# Altium integrated library Linear Technology Power Management PMIC Multifunction.IntLib: 360 symbols (part 17 of 42)
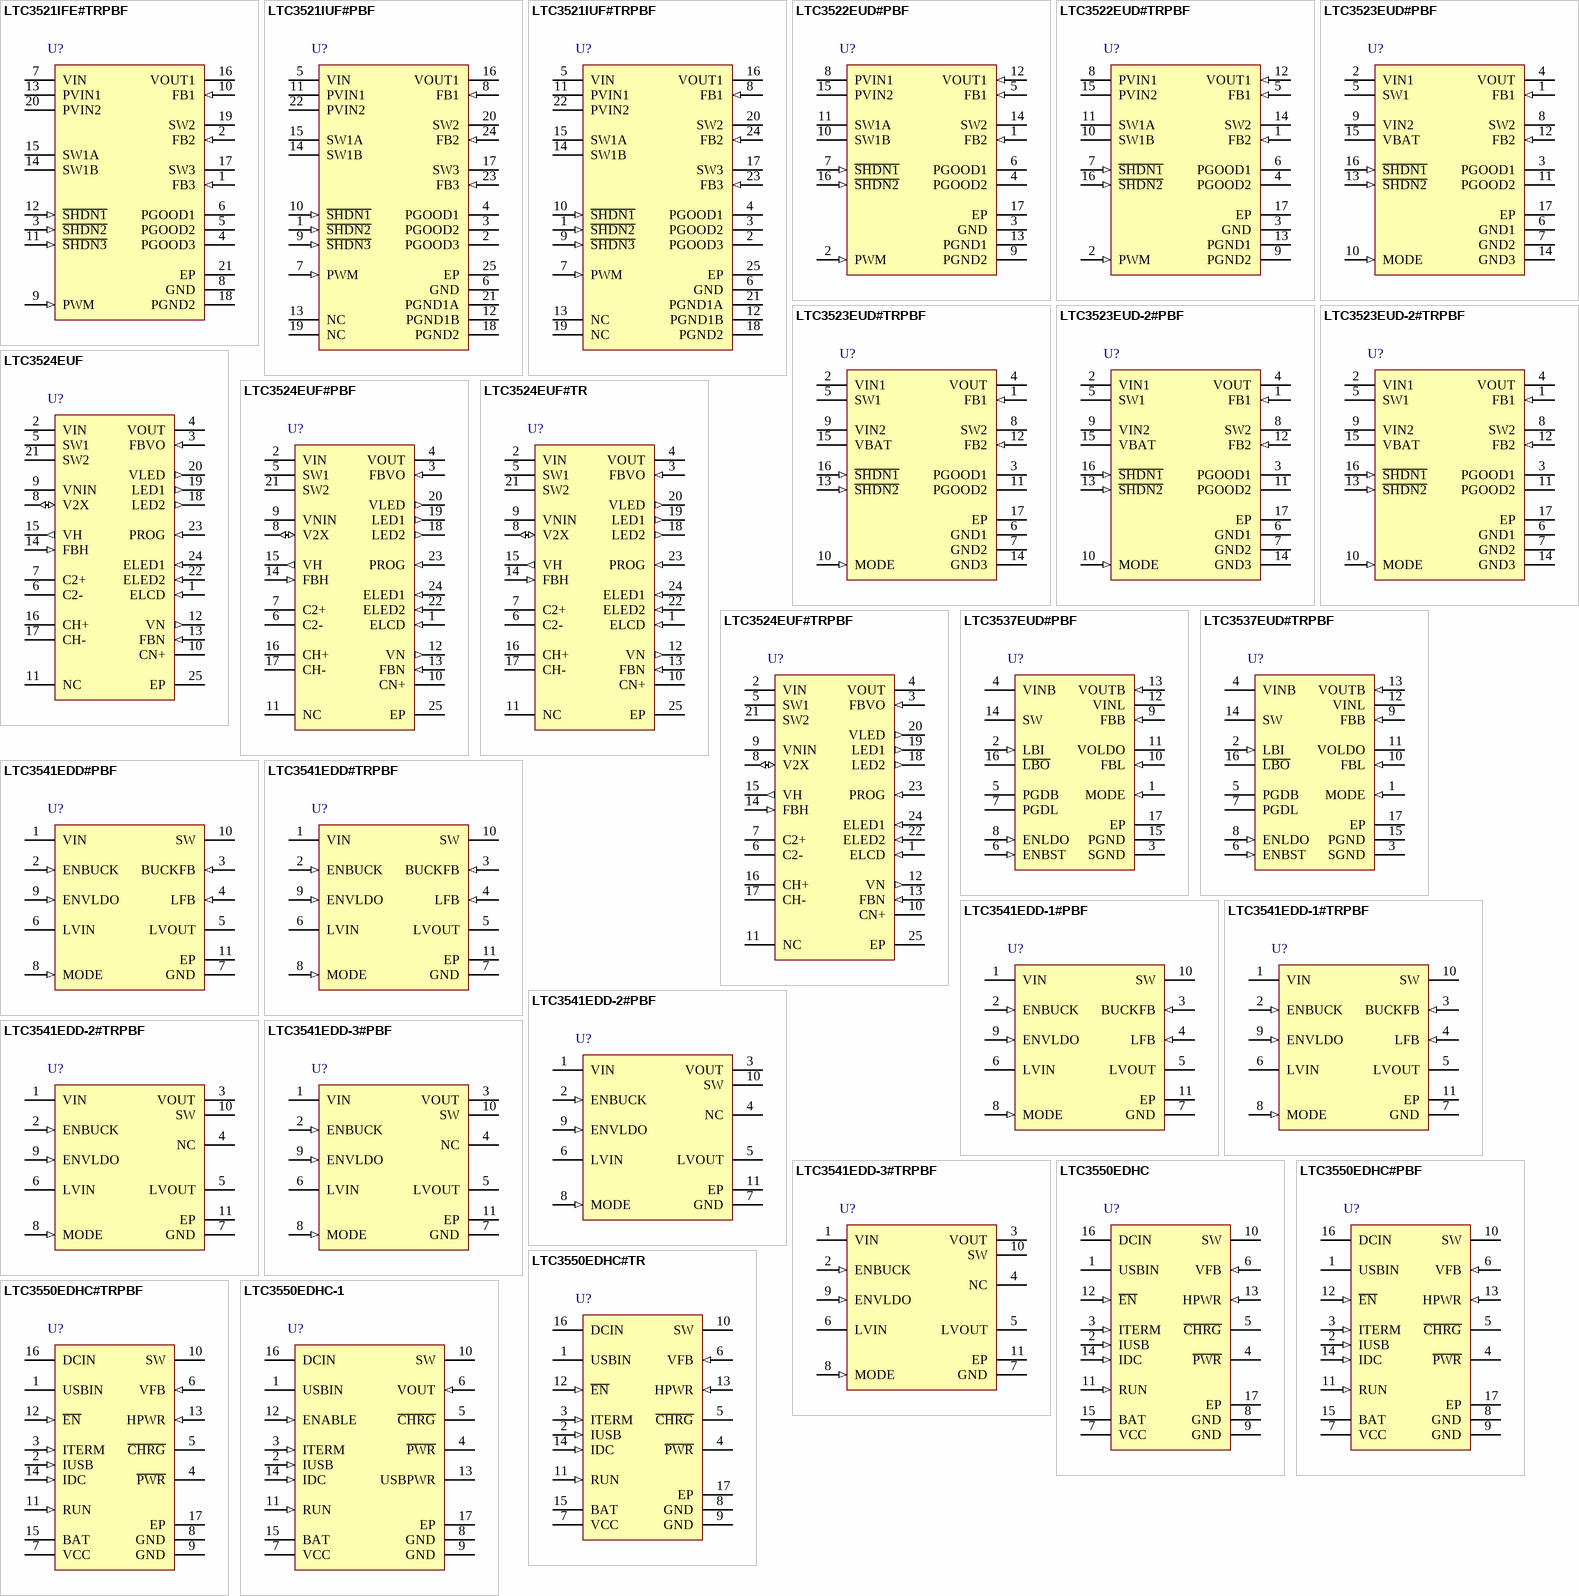
[diagram p34: symbols LTC3521IFE#TRPBF to LTC3550EDHC-1]

## LTC3523EUD#TRPBF
designator U?
Synchronous 600 mA Step-Up and 400 mA Step-Down DC/DC Converter, 1.6 to 5.5 V Vin, 16-pin QFN (UD-16), -40 to 85 degC, Pb-Free, Tape and Reel; Manufacturer: Linear Technology; PartNumber: LTC3523EUD#TRPBF; Number of Outputs: 2; Vin Max(V): 5.5; Vin Min(V): 1.6; DatasheetVersion: Rev. B; PackageVersion: Jun-10; PackageReference: UD-16; PackageDescription: 16-Pin Plastic QFN, Body 3 x 3 mm, Pitch 0.5 mm; Supplier 1: Digi-Key; Supplier Part Number 1: LTC3523EUD#TRPBF-ND; Supplier 2: Newark; Supplier Part Number 2: 88M1899; Packing: Tape and Reel; RoHS: TRUE; Mounting Technology: Surface Mount; Code_JEDEC: MO-220; ComponentLink1Description: Manufacturer URL; ComponentLink1URL: http://www.linear.com/; ComponentLink2Description: Datasheet; ComponentLink2URL: http://cds.linear.com/docs/en/datasheet/3523fb.pdf; ComponentLink3Description: Package Specification; ComponentLink3URL: http://cds.linear.com/docs/en/packaging/QFN_16_05-08-1691.pdf
footprint LT-UD-16_N (QFN, 16-Leads, Body 3x3mm, Pitch 0.5mm, Thermal Pad 1.45x1.45mm, IPC Medium Density)
footprint LT-UD-16_L (QFN, 16-Leads, Body 3x3mm, Pitch 0.5mm, Thermal Pad 1.45x1.45mm, IPC High Density)
footprint LT-UD-16_M (QFN, 16-Leads, Body 3x3mm, Pitch 0.5mm, Thermal Pad 1.45x1.45mm, IPC Low Density)
pins: 1 FB1 (in) "Step-Up Converter Feedback Input to the Error Amplifier. Connect resistor divider tap to this pin. The output voltage can be adjusted from 1.8V to 5.25V by: VOUT(STEP-UP) = 1.2V • (1 + R1/R2), See Block Diagram.", 2 VIN1 (power) "Step-Up Converter Power Voltage Input. This pin can be connected to a different supply than VIN2. This pin must be connected to a valid supply voltage.", 3 PGOOD1 (oc) "Step-Up Converter Power Good Comparator Output. This open-drain output is pulled low when VFB1 < -9% of its regulation voltage.", 4 VOUT (power) "Step-Up Converter Output Voltage Sense Input and Drain of the Internal Synchronous Rectifier MOSFET. Driver bias is derived from VOUT. PCB trace length from VOUT to the output fi lter capacitor(s) should be as short and wide (See Datasheet)", 5 SW1 "Step-Up Converter Switch Pin. Connect the inductor between SW1 and VIN1. Keep these PCB trace lengths as short and wide as possible to reduce EMI and voltage overshoot. If the inductor current falls to zero or S\H\D\N\1\ is (See Datasheet)", 6 GND1 (power) "Step-Up Converter Power Ground. Connect this pin to the ground plane.", 7 GND2 (power) "Step-Down Converter Power Ground. Connect this pin to the ground plane.", 8 SW2 (power) "Step-Down Converter Switch Pin. Connect one end of the inductor to SW2. Keep these PCB trace lengths as short and wide as possible to reduce EMI and voltage overshoot.", 9 VIN2 (power) "Step-Down Converter Power Voltage Input. This pin can be connected to a different supply than VIN1. This pin must be connected to a valid supply voltage.", 10 MODE (in) "Step-Up and Step-Down Converter Mode Selection Pin. Do not leave this pin floating.• MODE = Low: PWM mode • MODE = High: Automatic Burst Mode operation", 11 PGOOD2 (oc) "Step-Down Converter Power Good Comparator Output. This open-drain output is pulled low when VFB2 < -9% of its regulation voltage.", 12 FB2 (in) "Step-Down Converter Feedback Input to the Error amplifier. Connect resistor divider tap to this pin. The output voltage can be adjusted from 0.6V to 5.5V by:VOUT(STEP-DOWN) = 0.6V • (1 + R3/R4) See Block Diagram. If larg(See Datasheet)", 13 ~{SHDN2} (in) "Step-Down Converter Logic Controlled Shutdown Input. Do not leave this pin fl oating. • S\H\D\N\2\ = High: Normal free-running operation, 1.2MHz/2.4MHz typical operating frequency. • S\H\D\N\2\ = Low: Shutdown, quiesc(See Datasheet)", 14 GND3 (power) "Analog Ground. The feedback voltage dividers for each converter must be returned to GND3 for best performance.", 15 VBAT (power) "Analog Voltage Input. Connect this pin to the higher of VIN1 or VIN2.", 16 ~{SHDN1} (in) "Step-Up Converter Logic Controlled Shutdown Input. • S\H\D\N\1\ = High: Normal free-running operation, 1.2MHz/2.4MHz typical operating frequency. • S\H\D\N\1\ = Low: Shutdown, quiescent current < 1uA. This pin can(See Datasheet)", 17 EP (power) "Die attach pad must be soldered to PCB ground for electrical contact and optimum thermal performance."

## LTC3523EUD-2#PBF
designator U?
Synchronous 600 mA Step-Up and 400 mA Step-Down DC/DC Converter, 1.6 to 5.5 V Vin, 16-pin QFN (UD-16), -40 to 85 degC, Pb-Free; Manufacturer: Linear Technology; PartNumber: LTC3523EUD-2#PBF; Number of Outputs: 2; Vin Max(V): 5.5; Vin Min(V): 1.6; DatasheetVersion: Rev. B; PackageVersion: Jun-10; PackageReference: UD-16; PackageDescription: 16-Pin Plastic QFN, Body 3 x 3 mm, Pitch 0.5 mm; Supplier 1: Digi-Key; Supplier Part Number 1: LTC3523EUD-2#PBF-ND; Supplier 2: Farnell; Supplier Part Number 2: 1609769; Supplier 3: Newark; Supplier Part Number 3: 88M1896; RoHS: TRUE; Mounting Technology: Surface Mount; Code_JEDEC: MO-220; ComponentLink1Description: Manufacturer URL; ComponentLink1URL: http://www.linear.com/; ComponentLink2Description: Datasheet; ComponentLink2URL: http://cds.linear.com/docs/en/datasheet/3523fb.pdf; ComponentLink3Description: Package Specification; ComponentLink3URL: http://cds.linear.com/docs/en/packaging/QFN_16_05-08-1691.pdf
footprint LT-UD-16_N (QFN, 16-Leads, Body 3x3mm, Pitch 0.5mm, Thermal Pad 1.45x1.45mm, IPC Medium Density)
footprint LT-UD-16_L (QFN, 16-Leads, Body 3x3mm, Pitch 0.5mm, Thermal Pad 1.45x1.45mm, IPC High Density)
footprint LT-UD-16_M (QFN, 16-Leads, Body 3x3mm, Pitch 0.5mm, Thermal Pad 1.45x1.45mm, IPC Low Density)
pins: 1 FB1 (in) "Step-Up Converter Feedback Input to the Error Amplifier. Connect resistor divider tap to this pin. The output voltage can be adjusted from 1.8V to 5.25V by: VOUT(STEP-UP) = 1.2V • (1 + R1/R2), See Block Diagram.", 2 VIN1 (power) "Step-Up Converter Power Voltage Input. This pin can be connected to a different supply than VIN2. This pin must be connected to a valid supply voltage.", 3 PGOOD1 (oc) "Step-Up Converter Power Good Comparator Output. This open-drain output is pulled low when VFB1 < -9% of its regulation voltage.", 4 VOUT (power) "Step-Up Converter Output Voltage Sense Input and Drain of the Internal Synchronous Rectifier MOSFET. Driver bias is derived from VOUT. PCB trace length from VOUT to the output fi lter capacitor(s) should be as short and wide (See Datasheet)", 5 SW1 "Step-Up Converter Switch Pin. Connect the inductor between SW1 and VIN1. Keep these PCB trace lengths as short and wide as possible to reduce EMI and voltage overshoot. If the inductor current falls to zero or S\H\D\N\1\ is (See Datasheet)", 6 GND1 (power) "Step-Up Converter Power Ground. Connect this pin to the ground plane.", 7 GND2 (power) "Step-Down Converter Power Ground. Connect this pin to the ground plane.", 8 SW2 (power) "Step-Down Converter Switch Pin. Connect one end of the inductor to SW2. Keep these PCB trace lengths as short and wide as possible to reduce EMI and voltage overshoot.", 9 VIN2 (power) "Step-Down Converter Power Voltage Input. This pin can be connected to a different supply than VIN1. This pin must be connected to a valid supply voltage.", 10 MODE (in) "Step-Up and Step-Down Converter Mode Selection Pin. Do not leave this pin floating.• MODE = Low: PWM mode • MODE = High: Automatic Burst Mode operation", 11 PGOOD2 (oc) "Step-Down Converter Power Good Comparator Output. This open-drain output is pulled low when VFB2 < -9% of its regulation voltage.", 12 FB2 (in) "Step-Down Converter Feedback Input to the Error amplifier. Connect resistor divider tap to this pin. The output voltage can be adjusted from 0.6V to 5.5V by:VOUT(STEP-DOWN) = 0.6V • (1 + R3/R4) See Block Diagram. If larg(See Datasheet)", 13 ~{SHDN2} (in) "Step-Down Converter Logic Controlled Shutdown Input. Do not leave this pin fl oating. • S\H\D\N\2\ = High: Normal free-running operation, 1.2MHz/2.4MHz typical operating frequency. • S\H\D\N\2\ = Low: Shutdown, quiesc(See Datasheet)", 14 GND3 (power) "Analog Ground. The feedback voltage dividers for each converter must be returned to GND3 for best performance.", 15 VBAT (power) "Analog Voltage Input. Connect this pin to the higher of VIN1 or VIN2.", 16 ~{SHDN1} (in) "Step-Up Converter Logic Controlled Shutdown Input. • S\H\D\N\1\ = High: Normal free-running operation, 1.2MHz/2.4MHz typical operating frequency. • S\H\D\N\1\ = Low: Shutdown, quiescent current < 1uA. This pin can(See Datasheet)", 17 EP (power) "Die attach pad must be soldered to PCB ground for electrical contact and optimum thermal performance."

## LTC3523EUD-2#TRPBF
designator U?
Synchronous 600 mA Step-Up and 400 mA Step-Down DC/DC Converter, 1.6 to 5.5 V Vin, 16-pin QFN (UD-16), -40 to 85 degC, Pb-Free, Tape and Reel; Manufacturer: Linear Technology; PartNumber: LTC3523EUD-2#TRPBF; Number of Outputs: 2; Vin Max(V): 5.5; Vin Min(V): 1.6; DatasheetVersion: Rev. B; PackageVersion: Jun-10; PackageReference: UD-16; PackageDescription: 16-Pin Plastic QFN, Body 3 x 3 mm, Pitch 0.5 mm; Supplier 1: Digi-Key; Supplier Part Number 1: LTC3523EUD-2#TRPBF-ND; Packing: Tape and Reel; RoHS: TRUE; Mounting Technology: Surface Mount; Code_JEDEC: MO-220; ComponentLink1Description: Manufacturer URL; ComponentLink1URL: http://www.linear.com/; ComponentLink2Description: Datasheet; ComponentLink2URL: http://cds.linear.com/docs/en/datasheet/3523fb.pdf; ComponentLink3Description: Package Specification; ComponentLink3URL: http://cds.linear.com/docs/en/packaging/QFN_16_05-08-1691.pdf
footprint LT-UD-16_N (QFN, 16-Leads, Body 3x3mm, Pitch 0.5mm, Thermal Pad 1.45x1.45mm, IPC Medium Density)
footprint LT-UD-16_L (QFN, 16-Leads, Body 3x3mm, Pitch 0.5mm, Thermal Pad 1.45x1.45mm, IPC High Density)
footprint LT-UD-16_M (QFN, 16-Leads, Body 3x3mm, Pitch 0.5mm, Thermal Pad 1.45x1.45mm, IPC Low Density)
pins: 1 FB1 (in) "Step-Up Converter Feedback Input to the Error Amplifier. Connect resistor divider tap to this pin. The output voltage can be adjusted from 1.8V to 5.25V by: VOUT(STEP-UP) = 1.2V • (1 + R1/R2), See Block Diagram.", 2 VIN1 (power) "Step-Up Converter Power Voltage Input. This pin can be connected to a different supply than VIN2. This pin must be connected to a valid supply voltage.", 3 PGOOD1 (oc) "Step-Up Converter Power Good Comparator Output. This open-drain output is pulled low when VFB1 < -9% of its regulation voltage.", 4 VOUT (power) "Step-Up Converter Output Voltage Sense Input and Drain of the Internal Synchronous Rectifier MOSFET. Driver bias is derived from VOUT. PCB trace length from VOUT to the output fi lter capacitor(s) should be as short and wide (See Datasheet)", 5 SW1 "Step-Up Converter Switch Pin. Connect the inductor between SW1 and VIN1. Keep these PCB trace lengths as short and wide as possible to reduce EMI and voltage overshoot. If the inductor current falls to zero or S\H\D\N\1\ is (See Datasheet)", 6 GND1 (power) "Step-Up Converter Power Ground. Connect this pin to the ground plane.", 7 GND2 (power) "Step-Down Converter Power Ground. Connect this pin to the ground plane.", 8 SW2 (power) "Step-Down Converter Switch Pin. Connect one end of the inductor to SW2. Keep these PCB trace lengths as short and wide as possible to reduce EMI and voltage overshoot.", 9 VIN2 (power) "Step-Down Converter Power Voltage Input. This pin can be connected to a different supply than VIN1. This pin must be connected to a valid supply voltage.", 10 MODE (in) "Step-Up and Step-Down Converter Mode Selection Pin. Do not leave this pin floating.• MODE = Low: PWM mode • MODE = High: Automatic Burst Mode operation", 11 PGOOD2 (oc) "Step-Down Converter Power Good Comparator Output. This open-drain output is pulled low when VFB2 < -9% of its regulation voltage.", 12 FB2 (in) "Step-Down Converter Feedback Input to the Error amplifier. Connect resistor divider tap to this pin. The output voltage can be adjusted from 0.6V to 5.5V by:VOUT(STEP-DOWN) = 0.6V • (1 + R3/R4) See Block Diagram. If larg(See Datasheet)", 13 ~{SHDN2} (in) "Step-Down Converter Logic Controlled Shutdown Input. Do not leave this pin fl oating. • S\H\D\N\2\ = High: Normal free-running operation, 1.2MHz/2.4MHz typical operating frequency. • S\H\D\N\2\ = Low: Shutdown, quiesc(See Datasheet)", 14 GND3 (power) "Analog Ground. The feedback voltage dividers for each converter must be returned to GND3 for best performance.", 15 VBAT (power) "Analog Voltage Input. Connect this pin to the higher of VIN1 or VIN2.", 16 ~{SHDN1} (in) "Step-Up Converter Logic Controlled Shutdown Input. • S\H\D\N\1\ = High: Normal free-running operation, 1.2MHz/2.4MHz typical operating frequency. • S\H\D\N\1\ = Low: Shutdown, quiescent current < 1uA. This pin can(See Datasheet)", 17 EP (power) "Die attach pad must be soldered to PCB ground for electrical contact and optimum thermal performance."

## LTC3524EUF
designator U?
Adjustable TFT Bias Supply with WLED Driver, 2.5 to 6 V Vin, 24-pin QFN (UF-24), -40 to 85 degC; Manufacturer: Linear Technology; PartNumber: LTC3524EUF; Number of Outputs: 4; Vin Max(V): 6; Vin Min(V): 2.5; PackageVersion: Rev. B, 02/2012; PackageReference: UF24; PackageDescription: 24-Pin Plastic QFN, Body 4 x 4 mm, Pitch 0.5 mm; RoHS: FALSE; Mounting Technology: Surface Mount; Code_JEDEC: MO-220; ComponentLink1Description: Manufacturer URL; ComponentLink1URL: http://www.linear.com/; ComponentLink2Description: Datasheet; ComponentLink2URL: http://cds.linear.com/docs/en/datasheet/3524f.pdf; ComponentLink3Description: Package Specification; ComponentLink3URL: http://cds.linear.com/docs/en/packaging/%28UF24%29%20QFN%2005-08-1697%20Rev%20B.pdf
footprint LT-UF-24_N (QFN, 24-Leads, Body 4.1x4.1mm, Pitch 0.5mm, Thermal Pad 2.45x2.45mm, IPC Medium Density)
footprint LT-UF-24_L (QFN, 24-Leads, Body 4.1x4.1mm, Pitch 0.5mm, Thermal Pad 2.45x2.45mm, IPC High Density)
footprint LT-UF-24_M (QFN, 24-Leads, Body 4.1x4.1mm, Pitch 0.5mm, Thermal Pad 2.45x2.45mm, IPC Low Density)
pins: 1 ELCD (in) "Enable Input for the LTC3524’s LCD Circuits. LCD bias supplies are actively discharged to GND when ELCD is low through internal pull down devices. An optional RC network on ELCD provides a slower ramp-up of the LCD boos(See Datasheet)", 2 VIN (power) "Common Input Supply for LCD Bias and White LED Boost Converters. This pin must be locally bypassed with a minimum of 2.2uF.", 3 FBVO (in) "Feedback Pin for the VOUT Switcher. Reference voltage is 1.225V. Connect resistive divider tap here with minimum trace area.", 4 VOUT (power) "Main Output of the LCD Boost Regulator and Input to the Voltage Doubler (2X) Stage. Bypass VOUT with a low ESR, ESL ceramic capacitor (X5R type) between 4.7 and 22uF.", 5 SW1 "Synchronous Boost Switch. Connect a 4.7uH-15uH inductor between SW1 and VIN. Keep PCB trace lengths as short and wide as possible to reduce EMI and voltage overshoot. If the inductor current falls to zero, the PMOS (See Datasheet)", 6 C2- "Charge pump doubler flying capacitor negative node. The charge pump doubler flying capacitor is connected between C2+ and C2-. The voltage on C2- will alternate between GND and VOUT at an approximate 50% duty cycle while the (See Datasheet)", 7 C2+ "Charge pump doubler flying capacitor positive node. The charge pump doubler flying capacitor is connected between C2+ and C2-. The voltage on C2+ will alternate between VOUT and V2x at an approximate 50% duty cycle while the (See Datasheet)", 8 V2X (io) "Charge Pump Doubler Output and Input to the Charge Pump Quadrupler. This output generates 2X VOUT. V2x should be bypassed to GND with a 0.47uF X5R type ceramic capacitor. C2+ and C2- should be left open and V2x connected to (See Datasheet)", 9 VNIN (power) "Positive Voltage Input for the Charge Pump Inverter. The charge pump inverter can generate a regulated negative voltage up to the voltage applied to VNIN. Connect VNIN to VOUT, V2x, or VH. If VNIN is connected to VH, (See Datasheet)", 10 CN+ "Charge Pump Inverter Flying Capacitor Positive Node. The charge pump inverter flying capacitor is connected between CN+ and external Schottky diodes (see Typical Application figures). The voltage on CN+ will alternate (See Datasheet)", 11 NC "No Connect. This pin should be connected to GND.", 12 VN (out) "Negative Charge Pump Converter Output. VN can be regulated down to approximately -VNIN volts depending on where VNIN is connected. VN should be bypassed to GND with at 0.47uF or larger X5R type ceramic capacitor.", 13 FBN (in) "Feedback Pin for the VN Charge-Pump Output. Reference voltage is 1.0V. Connect the resistive divider tap between VOUT and VN here with minimum trace area.", 14 FBH (in) "Feedback Pin for the VH Charge-Pump Output. Reference voltage is 1.225V. Connect resistive divider tap here with minimum trace area.", 15 VH (out) "Charge Pump Quadrupler Output. This output can be regulated to 4X VOUT and is capable of delivering up to 2mA to a load. VH should be bypassed to GND with a 0.47uF X5R type ceramic capacitor. Connect V2x to VOUT for (See Datasheet)", 16 CH+ "Charge Pump Quadrupler Flying Capacitor Positive Node. The charge pump quadrupler (4X) flying capacitor is connected between CH+ and CH-. The voltage on CH+ will alternate between V2x and VH at an approximate 50% duty cycle (See Datasheet)", 17 CH- "Charge Pump Quadrupler (4X) Flying Capacitor Negative Node. The voltage on CH- will alternate between GND and V2x at an approximate 50% duty cycle while the charge pump is operating. Use a 0.1uF X5R type ceramic capacitor (See Datasheet)", 18 LED2 (out) "Output for Second LED String. Connect up to five white LEDs between LED2 (anode) and GND (cathode). For best current matching and effi ciency use the same number of white LEDs in both strings.", 19 LED1 (out) "Output for First LED String.", 20 VLED (out) "Output of the LED Switcher. Bypass VLED with a low ESR, ESL ceramic capacitor (X5R type) of at least 1uF. Keep PCB trace lengths as short and wide as possible to minimize EMI and voltage overshoot.", 21 SW2 "White LED Boost Switch. Connect a 3.3- 15uH inductor between SW2 and VIN. This is the collector of the internal NPN power switch. Connect an external Schottky diode between SW2 and VLED. Keep PCB trace lengths as short and (See Datasheet)", 22 ELED2 (in) "Enable and PWM Dimming Control Input for the LED2 String. The LED2 string is disabled when this pin is grounded. Digital dimming can be implemented by driving the ELED2 pin between 0V and >1.2V at low frequency (ie., 500Hz). (See Datasheet)", 23 PROG (in) "A single resistor (RPROG) between PROG and GND sets the current in the LED strings.", 24 ELED1 (in) "Enable and Pulse Dimming Control Input for the LED1 String. For applications with five or fewer LEDs, better efficiency is achieved by operating a single LED string. For example, ELED1 = 1, ELED2 = 0, LED2 left open circuit (See Datasheet)", 25 EP (power) "Signal and Power Ground for the LTC3524. Provide a short, direct PCB path between GND and the (-) side of the boost (VOUT, VLED) fi lter capacitors, and the (-) side of the charge pump outputs (V2x, VH, VN) filter capacitors.(See Datasheet)"

## LTC3524EUF#PBF
designator U?
Adjustable TFT Bias Supply with WLED Driver, 2.5 to 6 V Vin, 24-pin QFN (UF-24), -40 to 85 degC, Pb-Free; Manufacturer: Linear Technology; PartNumber: LTC3524EUF#PBF; Number of Outputs: 4; Vin Max(V): 6; Vin Min(V): 2.5; PackageVersion: Rev. B, 02/2012; PackageReference: UF24; PackageDescription: 24-Pin Plastic QFN, Body 4 x 4 mm, Pitch 0.5 mm; Supplier 1: Digi-Key; Supplier Part Number 1: LTC3524EUF#PBF-ND; RoHS: TRUE; Mounting Technology: Surface Mount; Code_JEDEC: MO-220; ComponentLink1Description: Manufacturer URL; ComponentLink1URL: http://www.linear.com/; ComponentLink2Description: Datasheet; ComponentLink2URL: http://cds.linear.com/docs/en/datasheet/3524f.pdf; ComponentLink3Description: Package Specification; ComponentLink3URL: http://cds.linear.com/docs/en/packaging/%28UF24%29%20QFN%2005-08-1697%20Rev%20B.pdf
footprint LT-UF-24_N (QFN, 24-Leads, Body 4.1x4.1mm, Pitch 0.5mm, Thermal Pad 2.45x2.45mm, IPC Medium Density)
footprint LT-UF-24_L (QFN, 24-Leads, Body 4.1x4.1mm, Pitch 0.5mm, Thermal Pad 2.45x2.45mm, IPC High Density)
footprint LT-UF-24_M (QFN, 24-Leads, Body 4.1x4.1mm, Pitch 0.5mm, Thermal Pad 2.45x2.45mm, IPC Low Density)
pins: 1 ELCD (in) "Enable Input for the LTC3524’s LCD Circuits. LCD bias supplies are actively discharged to GND when ELCD is low through internal pull down devices. An optional RC network on ELCD provides a slower ramp-up of the LCD boos(See Datasheet)", 2 VIN (power) "Common Input Supply for LCD Bias and White LED Boost Converters. This pin must be locally bypassed with a minimum of 2.2uF.", 3 FBVO (in) "Feedback Pin for the VOUT Switcher. Reference voltage is 1.225V. Connect resistive divider tap here with minimum trace area.", 4 VOUT (power) "Main Output of the LCD Boost Regulator and Input to the Voltage Doubler (2X) Stage. Bypass VOUT with a low ESR, ESL ceramic capacitor (X5R type) between 4.7 and 22uF.", 5 SW1 "Synchronous Boost Switch. Connect a 4.7uH-15uH inductor between SW1 and VIN. Keep PCB trace lengths as short and wide as possible to reduce EMI and voltage overshoot. If the inductor current falls to zero, the PMOS (See Datasheet)", 6 C2- "Charge pump doubler flying capacitor negative node. The charge pump doubler flying capacitor is connected between C2+ and C2-. The voltage on C2- will alternate between GND and VOUT at an approximate 50% duty cycle while the (See Datasheet)", 7 C2+ "Charge pump doubler flying capacitor positive node. The charge pump doubler flying capacitor is connected between C2+ and C2-. The voltage on C2+ will alternate between VOUT and V2x at an approximate 50% duty cycle while the (See Datasheet)", 8 V2X (io) "Charge Pump Doubler Output and Input to the Charge Pump Quadrupler. This output generates 2X VOUT. V2x should be bypassed to GND with a 0.47uF X5R type ceramic capacitor. C2+ and C2- should be left open and V2x connected to (See Datasheet)", 9 VNIN (power) "Positive Voltage Input for the Charge Pump Inverter. The charge pump inverter can generate a regulated negative voltage up to the voltage applied to VNIN. Connect VNIN to VOUT, V2x, or VH. If VNIN is connected to VH, (See Datasheet)", 10 CN+ "Charge Pump Inverter Flying Capacitor Positive Node. The charge pump inverter flying capacitor is connected between CN+ and external Schottky diodes (see Typical Application figures). The voltage on CN+ will alternate (See Datasheet)", 11 NC "No Connect. This pin should be connected to GND.", 12 VN (out) "Negative Charge Pump Converter Output. VN can be regulated down to approximately -VNIN volts depending on where VNIN is connected. VN should be bypassed to GND with at 0.47uF or larger X5R type ceramic capacitor.", 13 FBN (in) "Feedback Pin for the VN Charge-Pump Output. Reference voltage is 1.0V. Connect the resistive divider tap between VOUT and VN here with minimum trace area.", 14 FBH (in) "Feedback Pin for the VH Charge-Pump Output. Reference voltage is 1.225V. Connect resistive divider tap here with minimum trace area.", 15 VH (out) "Charge Pump Quadrupler Output. This output can be regulated to 4X VOUT and is capable of delivering up to 2mA to a load. VH should be bypassed to GND with a 0.47uF X5R type ceramic capacitor. Connect V2x to VOUT for (See Datasheet)", 16 CH+ "Charge Pump Quadrupler Flying Capacitor Positive Node. The charge pump quadrupler (4X) flying capacitor is connected between CH+ and CH-. The voltage on CH+ will alternate between V2x and VH at an approximate 50% duty cycle (See Datasheet)", 17 CH- "Charge Pump Quadrupler (4X) Flying Capacitor Negative Node. The voltage on CH- will alternate between GND and V2x at an approximate 50% duty cycle while the charge pump is operating. Use a 0.1uF X5R type ceramic capacitor (See Datasheet)", 18 LED2 (out) "Output for Second LED String. Connect up to five white LEDs between LED2 (anode) and GND (cathode). For best current matching and effi ciency use the same number of white LEDs in both strings.", 19 LED1 (out) "Output for First LED String.", 20 VLED (out) "Output of the LED Switcher. Bypass VLED with a low ESR, ESL ceramic capacitor (X5R type) of at least 1uF. Keep PCB trace lengths as short and wide as possible to minimize EMI and voltage overshoot.", 21 SW2 "White LED Boost Switch. Connect a 3.3- 15uH inductor between SW2 and VIN. This is the collector of the internal NPN power switch. Connect an external Schottky diode between SW2 and VLED. Keep PCB trace lengths as short and (See Datasheet)", 22 ELED2 (in) "Enable and PWM Dimming Control Input for the LED2 String. The LED2 string is disabled when this pin is grounded. Digital dimming can be implemented by driving the ELED2 pin between 0V and >1.2V at low frequency (ie., 500Hz). (See Datasheet)", 23 PROG (in) "A single resistor (RPROG) between PROG and GND sets the current in the LED strings.", 24 ELED1 (in) "Enable and Pulse Dimming Control Input for the LED1 String. For applications with five or fewer LEDs, better efficiency is achieved by operating a single LED string. For example, ELED1 = 1, ELED2 = 0, LED2 left open circuit (See Datasheet)", 25 EP (power) "Signal and Power Ground for the LTC3524. Provide a short, direct PCB path between GND and the (-) side of the boost (VOUT, VLED) fi lter capacitors, and the (-) side of the charge pump outputs (V2x, VH, VN) filter capacitors.(See Datasheet)"

## LTC3524EUF#TR
designator U?
Adjustable TFT Bias Supply with WLED Driver, 2.5 to 6 V Vin, 24-pin QFN (UF-24), -40 to 85 degC, Tape and Reel; Manufacturer: Linear Technology; PartNumber: LTC3524EUF#TR; Number of Outputs: 4; Vin Max(V): 6; Vin Min(V): 2.5; PackageVersion: Rev. B, 02/2012; PackageReference: UF24; PackageDescription: 24-Pin Plastic QFN, Body 4 x 4 mm, Pitch 0.5 mm; Packing: Tape and Reel; RoHS: FALSE; Mounting Technology: Surface Mount; Code_JEDEC: MO-220; ComponentLink1Description: Manufacturer URL; ComponentLink1URL: http://www.linear.com/; ComponentLink2Description: Datasheet; ComponentLink2URL: http://cds.linear.com/docs/en/datasheet/3524f.pdf; ComponentLink3Description: Package Specification; ComponentLink3URL: http://cds.linear.com/docs/en/packaging/%28UF24%29%20QFN%2005-08-1697%20Rev%20B.pdf
footprint LT-UF-24_N (QFN, 24-Leads, Body 4.1x4.1mm, Pitch 0.5mm, Thermal Pad 2.45x2.45mm, IPC Medium Density)
footprint LT-UF-24_L (QFN, 24-Leads, Body 4.1x4.1mm, Pitch 0.5mm, Thermal Pad 2.45x2.45mm, IPC High Density)
footprint LT-UF-24_M (QFN, 24-Leads, Body 4.1x4.1mm, Pitch 0.5mm, Thermal Pad 2.45x2.45mm, IPC Low Density)
pins: 1 ELCD (in) "Enable Input for the LTC3524’s LCD Circuits. LCD bias supplies are actively discharged to GND when ELCD is low through internal pull down devices. An optional RC network on ELCD provides a slower ramp-up of the LCD boos(See Datasheet)", 2 VIN (power) "Common Input Supply for LCD Bias and White LED Boost Converters. This pin must be locally bypassed with a minimum of 2.2uF.", 3 FBVO (in) "Feedback Pin for the VOUT Switcher. Reference voltage is 1.225V. Connect resistive divider tap here with minimum trace area.", 4 VOUT (power) "Main Output of the LCD Boost Regulator and Input to the Voltage Doubler (2X) Stage. Bypass VOUT with a low ESR, ESL ceramic capacitor (X5R type) between 4.7 and 22uF.", 5 SW1 "Synchronous Boost Switch. Connect a 4.7uH-15uH inductor between SW1 and VIN. Keep PCB trace lengths as short and wide as possible to reduce EMI and voltage overshoot. If the inductor current falls to zero, the PMOS (See Datasheet)", 6 C2- "Charge pump doubler flying capacitor negative node. The charge pump doubler flying capacitor is connected between C2+ and C2-. The voltage on C2- will alternate between GND and VOUT at an approximate 50% duty cycle while the (See Datasheet)", 7 C2+ "Charge pump doubler flying capacitor positive node. The charge pump doubler flying capacitor is connected between C2+ and C2-. The voltage on C2+ will alternate between VOUT and V2x at an approximate 50% duty cycle while the (See Datasheet)", 8 V2X (io) "Charge Pump Doubler Output and Input to the Charge Pump Quadrupler. This output generates 2X VOUT. V2x should be bypassed to GND with a 0.47uF X5R type ceramic capacitor. C2+ and C2- should be left open and V2x connected to (See Datasheet)", 9 VNIN (power) "Positive Voltage Input for the Charge Pump Inverter. The charge pump inverter can generate a regulated negative voltage up to the voltage applied to VNIN. Connect VNIN to VOUT, V2x, or VH. If VNIN is connected to VH, (See Datasheet)", 10 CN+ "Charge Pump Inverter Flying Capacitor Positive Node. The charge pump inverter flying capacitor is connected between CN+ and external Schottky diodes (see Typical Application figures). The voltage on CN+ will alternate (See Datasheet)", 11 NC "No Connect. This pin should be connected to GND.", 12 VN (out) "Negative Charge Pump Converter Output. VN can be regulated down to approximately -VNIN volts depending on where VNIN is connected. VN should be bypassed to GND with at 0.47uF or larger X5R type ceramic capacitor.", 13 FBN (in) "Feedback Pin for the VN Charge-Pump Output. Reference voltage is 1.0V. Connect the resistive divider tap between VOUT and VN here with minimum trace area.", 14 FBH (in) "Feedback Pin for the VH Charge-Pump Output. Reference voltage is 1.225V. Connect resistive divider tap here with minimum trace area.", 15 VH (out) "Charge Pump Quadrupler Output. This output can be regulated to 4X VOUT and is capable of delivering up to 2mA to a load. VH should be bypassed to GND with a 0.47uF X5R type ceramic capacitor. Connect V2x to VOUT for (See Datasheet)", 16 CH+ "Charge Pump Quadrupler Flying Capacitor Positive Node. The charge pump quadrupler (4X) flying capacitor is connected between CH+ and CH-. The voltage on CH+ will alternate between V2x and VH at an approximate 50% duty cycle (See Datasheet)", 17 CH- "Charge Pump Quadrupler (4X) Flying Capacitor Negative Node. The voltage on CH- will alternate between GND and V2x at an approximate 50% duty cycle while the charge pump is operating. Use a 0.1uF X5R type ceramic capacitor (See Datasheet)", 18 LED2 (out) "Output for Second LED String. Connect up to five white LEDs between LED2 (anode) and GND (cathode). For best current matching and effi ciency use the same number of white LEDs in both strings.", 19 LED1 (out) "Output for First LED String.", 20 VLED (out) "Output of the LED Switcher. Bypass VLED with a low ESR, ESL ceramic capacitor (X5R type) of at least 1uF. Keep PCB trace lengths as short and wide as possible to minimize EMI and voltage overshoot.", 21 SW2 "White LED Boost Switch. Connect a 3.3- 15uH inductor between SW2 and VIN. This is the collector of the internal NPN power switch. Connect an external Schottky diode between SW2 and VLED. Keep PCB trace lengths as short and (See Datasheet)", 22 ELED2 (in) "Enable and PWM Dimming Control Input for the LED2 String. The LED2 string is disabled when this pin is grounded. Digital dimming can be implemented by driving the ELED2 pin between 0V and >1.2V at low frequency (ie., 500Hz). (See Datasheet)", 23 PROG (in) "A single resistor (RPROG) between PROG and GND sets the current in the LED strings.", 24 ELED1 (in) "Enable and Pulse Dimming Control Input for the LED1 String. For applications with five or fewer LEDs, better efficiency is achieved by operating a single LED string. For example, ELED1 = 1, ELED2 = 0, LED2 left open circuit (See Datasheet)", 25 EP (power) "Signal and Power Ground for the LTC3524. Provide a short, direct PCB path between GND and the (-) side of the boost (VOUT, VLED) fi lter capacitors, and the (-) side of the charge pump outputs (V2x, VH, VN) filter capacitors.(See Datasheet)"

## LTC3524EUF#TRPBF
designator U?
Adjustable TFT Bias Supply with WLED Driver, 2.5 to 6 V Vin, 24-pin QFN (UF-24), -40 to 85 degC, Pb-Free, Tape and Reel; Manufacturer: Linear Technology; PartNumber: LTC3524EUF#TRPBF; Number of Outputs: 4; Vin Max(V): 6; Vin Min(V): 2.5; PackageVersion: Rev. B, 02/2012; PackageReference: UF24; PackageDescription: 24-Pin Plastic QFN, Body 4 x 4 mm, Pitch 0.5 mm; Supplier 1: Digi-Key; Supplier Part Number 1: LTC3524EUF#TRPBF-ND; Packing: Tape and Reel; RoHS: TRUE; Mounting Technology: Surface Mount; Code_JEDEC: MO-220; ComponentLink1Description: Manufacturer URL; ComponentLink1URL: http://www.linear.com/; ComponentLink2Description: Datasheet; ComponentLink2URL: http://cds.linear.com/docs/en/datasheet/3524f.pdf; ComponentLink3Description: Package Specification; ComponentLink3URL: http://cds.linear.com/docs/en/packaging/%28UF24%29%20QFN%2005-08-1697%20Rev%20B.pdf
footprint LT-UF-24_N (QFN, 24-Leads, Body 4.1x4.1mm, Pitch 0.5mm, Thermal Pad 2.45x2.45mm, IPC Medium Density)
footprint LT-UF-24_L (QFN, 24-Leads, Body 4.1x4.1mm, Pitch 0.5mm, Thermal Pad 2.45x2.45mm, IPC High Density)
footprint LT-UF-24_M (QFN, 24-Leads, Body 4.1x4.1mm, Pitch 0.5mm, Thermal Pad 2.45x2.45mm, IPC Low Density)
pins: 1 ELCD (in) "Enable Input for the LTC3524’s LCD Circuits. LCD bias supplies are actively discharged to GND when ELCD is low through internal pull down devices. An optional RC network on ELCD provides a slower ramp-up of the LCD boos(See Datasheet)", 2 VIN (power) "Common Input Supply for LCD Bias and White LED Boost Converters. This pin must be locally bypassed with a minimum of 2.2uF.", 3 FBVO (in) "Feedback Pin for the VOUT Switcher. Reference voltage is 1.225V. Connect resistive divider tap here with minimum trace area.", 4 VOUT (power) "Main Output of the LCD Boost Regulator and Input to the Voltage Doubler (2X) Stage. Bypass VOUT with a low ESR, ESL ceramic capacitor (X5R type) between 4.7 and 22uF.", 5 SW1 "Synchronous Boost Switch. Connect a 4.7uH-15uH inductor between SW1 and VIN. Keep PCB trace lengths as short and wide as possible to reduce EMI and voltage overshoot. If the inductor current falls to zero, the PMOS (See Datasheet)", 6 C2- "Charge pump doubler flying capacitor negative node. The charge pump doubler flying capacitor is connected between C2+ and C2-. The voltage on C2- will alternate between GND and VOUT at an approximate 50% duty cycle while the (See Datasheet)", 7 C2+ "Charge pump doubler flying capacitor positive node. The charge pump doubler flying capacitor is connected between C2+ and C2-. The voltage on C2+ will alternate between VOUT and V2x at an approximate 50% duty cycle while the (See Datasheet)", 8 V2X (io) "Charge Pump Doubler Output and Input to the Charge Pump Quadrupler. This output generates 2X VOUT. V2x should be bypassed to GND with a 0.47uF X5R type ceramic capacitor. C2+ and C2- should be left open and V2x connected to (See Datasheet)", 9 VNIN (power) "Positive Voltage Input for the Charge Pump Inverter. The charge pump inverter can generate a regulated negative voltage up to the voltage applied to VNIN. Connect VNIN to VOUT, V2x, or VH. If VNIN is connected to VH, (See Datasheet)", 10 CN+ "Charge Pump Inverter Flying Capacitor Positive Node. The charge pump inverter flying capacitor is connected between CN+ and external Schottky diodes (see Typical Application figures). The voltage on CN+ will alternate (See Datasheet)", 11 NC "No Connect. This pin should be connected to GND.", 12 VN (out) "Negative Charge Pump Converter Output. VN can be regulated down to approximately -VNIN volts depending on where VNIN is connected. VN should be bypassed to GND with at 0.47uF or larger X5R type ceramic capacitor.", 13 FBN (in) "Feedback Pin for the VN Charge-Pump Output. Reference voltage is 1.0V. Connect the resistive divider tap between VOUT and VN here with minimum trace area.", 14 FBH (in) "Feedback Pin for the VH Charge-Pump Output. Reference voltage is 1.225V. Connect resistive divider tap here with minimum trace area.", 15 VH (out) "Charge Pump Quadrupler Output. This output can be regulated to 4X VOUT and is capable of delivering up to 2mA to a load. VH should be bypassed to GND with a 0.47uF X5R type ceramic capacitor. Connect V2x to VOUT for (See Datasheet)", 16 CH+ "Charge Pump Quadrupler Flying Capacitor Positive Node. The charge pump quadrupler (4X) flying capacitor is connected between CH+ and CH-. The voltage on CH+ will alternate between V2x and VH at an approximate 50% duty cycle (See Datasheet)", 17 CH- "Charge Pump Quadrupler (4X) Flying Capacitor Negative Node. The voltage on CH- will alternate between GND and V2x at an approximate 50% duty cycle while the charge pump is operating. Use a 0.1uF X5R type ceramic capacitor (See Datasheet)", 18 LED2 (out) "Output for Second LED String. Connect up to five white LEDs between LED2 (anode) and GND (cathode). For best current matching and effi ciency use the same number of white LEDs in both strings.", 19 LED1 (out) "Output for First LED String.", 20 VLED (out) "Output of the LED Switcher. Bypass VLED with a low ESR, ESL ceramic capacitor (X5R type) of at least 1uF. Keep PCB trace lengths as short and wide as possible to minimize EMI and voltage overshoot.", 21 SW2 "White LED Boost Switch. Connect a 3.3- 15uH inductor between SW2 and VIN. This is the collector of the internal NPN power switch. Connect an external Schottky diode between SW2 and VLED. Keep PCB trace lengths as short and (See Datasheet)", 22 ELED2 (in) "Enable and PWM Dimming Control Input for the LED2 String. The LED2 string is disabled when this pin is grounded. Digital dimming can be implemented by driving the ELED2 pin between 0V and >1.2V at low frequency (ie., 500Hz). (See Datasheet)", 23 PROG (in) "A single resistor (RPROG) between PROG and GND sets the current in the LED strings.", 24 ELED1 (in) "Enable and Pulse Dimming Control Input for the LED1 String. For applications with five or fewer LEDs, better efficiency is achieved by operating a single LED string. For example, ELED1 = 1, ELED2 = 0, LED2 left open circuit (See Datasheet)", 25 EP (power) "Signal and Power Ground for the LTC3524. Provide a short, direct PCB path between GND and the (-) side of the boost (VOUT, VLED) fi lter capacitors, and the (-) side of the charge pump outputs (V2x, VH, VN) filter capacitors.(See Datasheet)"

## LTC3537EUD#PBF
designator U?
2.2 MHz, 600 mA Synchronous Step-Up DC/DC Converter and 100 mA LDO, 0.68 to 5 V Vin, 16-pin QFN (UD-16), -40 to 85 degC, Pb-Free; Manufacturer: Linear Technology; PartNumber: LTC3537EUD#PBF; Number of Outputs: 2; Vin Max(V): 5; Vin Min(V): 0.68; DatasheetVersion: Rev. D; PackageVersion: Jun-10; PackageReference: UD-16; PackageDescription: 16-Pin Plastic QFN, Body 3 x 3 mm, Pitch 0.5 mm; Supplier 1: Digi-Key; Supplier Part Number 1: LTC3537EUD#PBF-ND; Supplier 2: Farnell; Supplier Part Number 2: 1715236; RoHS: TRUE; Mounting Technology: Surface Mount; Code_JEDEC: MO-220; ComponentLink1Description: Manufacturer URL; ComponentLink1URL: http://www.linear.com/; ComponentLink2Description: Datasheet; ComponentLink2URL: http://cds.linear.com/docs/en/datasheet/3537fd.pdf; ComponentLink3Description: Package Specification; ComponentLink3URL: http://cds.linear.com/docs/en/packaging/QFN_16_05-08-1691.pdf
footprint LT-UD-16_N (QFN, 16-Leads, Body 3x3mm, Pitch 0.5mm, Thermal Pad 1.45x1.45mm, IPC Medium Density)
footprint LT-UD-16_L (QFN, 16-Leads, Body 3x3mm, Pitch 0.5mm, Thermal Pad 1.45x1.45mm, IPC High Density)
footprint LT-UD-16_M (QFN, 16-Leads, Body 3x3mm, Pitch 0.5mm, Thermal Pad 1.45x1.45mm, IPC Low Density)
pins: 1 MODE (in) "Logic Controlled Input for the Auto-Burst Mode Feature.", 2 LBI (in) "Low-Battery Comparator Non-Inverting Input. (Comparator enabled with ENBST or ENLDO)", 3 SGND (power) "Signal Ground. Provide a short direct PCB path between GND and the (-) side of the input and output capacitors.", 4 VINB (power) "Input Supply for the Step-Up Converter. Connect a minimum of 1uF ceramic decoupling capacitor from this pin to ground.", 5 PGDB (oc) "Power Good Indicator for the Boost Converter. This is an open-drain output that sinks current when VOUTB is less than 94% of the programmed voltage.", 6 ENBST (in) "Logic controlled shutdown input for the boost converter.", 7 PGDL (oc) "Power Good Indicator for the LDO Regulator. This is an open-drain output that sinks current when VOLDO is less than 96% of the programmed voltage.", 8 ENLDO (in) "Logic Controlled Shutdown Input for the LDO Regulator.", 9 FBB (in) "Feedback Input to the gm Error Amplifier of the Boost Converter. Connect resistor divider tap to this pin. The output voltage can be adjusted from 1.5V to 5.25V by: VOUTB = 1.21V * [1 + (R2/R1)]", 10 FBL (in) "Feedback Input to the gm Error Amplifier of the LDO. Connect resistor divider tap to this pin. The output voltage can be adjusted from 0.6V (typical) to 5V by: VOLDO = 0.6V *  [1 + (R4/R3)]", 11 VOLDO (power) "LDO Regulator Output. PCB trace from VOLDO to the output filter capacitor (1uF minimum) should be as short and as wide as possible.", 12 VINL (power) "Input Supply for the LDO Regulator.", 13 VOUTB (in) "Output Voltage Sense Input and Drain of the Internal Synchronous Rectifier. PCB trace length from VOUTB to the output filter capacitor (4.7uF minimum) should be as short and wide as possible.", 14 SW "Switch Pin. Connect the inductor between SW and VINB. Keep these PCB trace lengths as short and wide as possible to reduce EMI. If the inductor current falls to zero or ENBST is low, an internal anti-ringing switch is (See Datasheet)", 15 PGND (power) "Power Ground. Provide a short direct PCB path between GND and the (-) side of the input and output capacitors.", 16 ~{LBO} (oc) "Low-Battery Comparator Output. (Open- Drain)", 17 EP (power) "Power Ground. The Exposed Pad must be soldered to the PCB."

## LTC3537EUD#TRPBF
designator U?
2.2 MHz, 600 mA Synchronous Step-Up DC/DC Converter and 100 mA LDO, 0.68 to 5 V Vin, 16-pin QFN (UD-16), -40 to 85 degC, Pb-Free, Tape and Reel; Manufacturer: Linear Technology; PartNumber: LTC3537EUD#TRPBF; Number of Outputs: 2; Vin Max(V): 5; Vin Min(V): 0.68; DatasheetVersion: Rev. D; PackageVersion: Jun-10; PackageReference: UD-16; PackageDescription: 16-Pin Plastic QFN, Body 3 x 3 mm, Pitch 0.5 mm; Supplier 1: Digi-Key; Supplier Part Number 1: LTC3537EUD#TRPBF-ND; Packing: Tape and Reel; RoHS: TRUE; Mounting Technology: Surface Mount; Code_JEDEC: MO-220; ComponentLink1Description: Manufacturer URL; ComponentLink1URL: http://www.linear.com/; ComponentLink2Description: Datasheet; ComponentLink2URL: http://cds.linear.com/docs/en/datasheet/3537fd.pdf; ComponentLink3Description: Package Specification; ComponentLink3URL: http://cds.linear.com/docs/en/packaging/QFN_16_05-08-1691.pdf
footprint LT-UD-16_N (QFN, 16-Leads, Body 3x3mm, Pitch 0.5mm, Thermal Pad 1.45x1.45mm, IPC Medium Density)
footprint LT-UD-16_L (QFN, 16-Leads, Body 3x3mm, Pitch 0.5mm, Thermal Pad 1.45x1.45mm, IPC High Density)
footprint LT-UD-16_M (QFN, 16-Leads, Body 3x3mm, Pitch 0.5mm, Thermal Pad 1.45x1.45mm, IPC Low Density)
pins: 1 MODE (in) "Logic Controlled Input for the Auto-Burst Mode Feature.", 2 LBI (in) "Low-Battery Comparator Non-Inverting Input. (Comparator enabled with ENBST or ENLDO)", 3 SGND (power) "Signal Ground. Provide a short direct PCB path between GND and the (-) side of the input and output capacitors.", 4 VINB (power) "Input Supply for the Step-Up Converter. Connect a minimum of 1uF ceramic decoupling capacitor from this pin to ground.", 5 PGDB (oc) "Power Good Indicator for the Boost Converter. This is an open-drain output that sinks current when VOUTB is less than 94% of the programmed voltage.", 6 ENBST (in) "Logic controlled shutdown input for the boost converter.", 7 PGDL (oc) "Power Good Indicator for the LDO Regulator. This is an open-drain output that sinks current when VOLDO is less than 96% of the programmed voltage.", 8 ENLDO (in) "Logic Controlled Shutdown Input for the LDO Regulator.", 9 FBB (in) "Feedback Input to the gm Error Amplifier of the Boost Converter. Connect resistor divider tap to this pin. The output voltage can be adjusted from 1.5V to 5.25V by: VOUTB = 1.21V * [1 + (R2/R1)]", 10 FBL (in) "Feedback Input to the gm Error Amplifier of the LDO. Connect resistor divider tap to this pin. The output voltage can be adjusted from 0.6V (typical) to 5V by: VOLDO = 0.6V *  [1 + (R4/R3)]", 11 VOLDO (power) "LDO Regulator Output. PCB trace from VOLDO to the output filter capacitor (1uF minimum) should be as short and as wide as possible.", 12 VINL (power) "Input Supply for the LDO Regulator.", 13 VOUTB (in) "Output Voltage Sense Input and Drain of the Internal Synchronous Rectifier. PCB trace length from VOUTB to the output filter capacitor (4.7uF minimum) should be as short and wide as possible.", 14 SW "Switch Pin. Connect the inductor between SW and VINB. Keep these PCB trace lengths as short and wide as possible to reduce EMI. If the inductor current falls to zero or ENBST is low, an internal anti-ringing switch is (See Datasheet)", 15 PGND (power) "Power Ground. Provide a short direct PCB path between GND and the (-) side of the input and output capacitors.", 16 ~{LBO} (oc) "Low-Battery Comparator Output. (Open- Drain)", 17 EP (power) "Power Ground. The Exposed Pad must be soldered to the PCB."

## LTC3541EDD#PBF
designator U?
High Efficiency Buck + VLDO Regulator, 2.7 to 5.5 V Vin, 10-pin SON (DD-10), -40 to 85 degC, Pb-Free; Manufacturer: Linear Technology; PartNumber: LTC3541EDD#PBF; Number of Outputs: 2; Vin Max(V): 5.5; Vin Min(V): 2.7; DatasheetVersion: Rev. A; PackageVersion: Rev. C, 06/2010; PackageReference: DD-10; PackageDescription: 10-Pin Plastic DFN, Body 3 x 3 mm, Pitch 0.5 mm; Supplier 1: Digi-Key; Supplier Part Number 1: LTC3541EDD#PBF-ND; Supplier 2: Newark; Supplier Part Number 2: 56M7970; RoHS: TRUE; Mounting Technology: Surface Mount; Code_JEDEC: MO-229; ComponentLink1Description: Manufacturer URL; ComponentLink1URL: http://www.linear.com/; ComponentLink2Description: Datasheet; ComponentLink2URL: http://cds.linear.com/docs/en/datasheet/3541fa.pdf; ComponentLink3Description: Package Specification; ComponentLink3URL: http://cds.linear.com/docs/en/packaging/DFN_10_05-08-1699.pdf
footprint LT-DD-10_V (SON, 10-Leads, Body 3x3mm, Pitch 0.5mm, Thermal Pad 2.38x1.65mm)
pins: 1 VIN (power) "Main Supply Pin. This pin must be closely decoupled to GND with a 10uF or greater capacitor.", 2 ENBUCK (in) "Buck Enable Pin. This pin enables the buck regulator when driven to a logic high.", 3 BUCKFB (in) "Buck Regulator Feedback Pin. This pin receives the buck regulator’s feedback voltage from an external resistive divider.", 4 LFB (in) "VLDO/Linear Regulator Feedback Pin. This pin receives either the VLDO or linear regulator’s feedback voltage from an external resistive divider.", 5 LVOUT (power) "VLDO/Linear Regulator Output Pin. This pin provides the regulated output voltage from the VLDO or linear regulator.", 6 LVIN (power) "VLDO/Linear Regulator Input Supply Pin. This pin provides the input supply voltage for the VLDO power FET.", 7 GND (power) "Analog Ground Pin.", 8 MODE (in) "Buck Mode Selection Pin. This pin enables buck Pulse-Skip operation when driven to a logic high and enables buck Burst Mode operation when driven to a logic low.", 9 ENVLDO (in) "VLDO/Linear Regulator Enable Pin. When driven to a logic high, this pin enables the linear regulator when the ENBUCK pin is driven to a logic low, and enables the VLDO when the ENBUCK pin is driven to a logic high.", 10 SW (power) "Switch Node Pin. This pin connects the internal main and synchronous power MOSFET switches to the external inductor for the buck regulator.", 11 EP (power) "Ground Pin. This pin must be soldered to the PCB to provide both electrical contact to ground and good thermal contact to the PCB."